# Altium schematic symbol library 2019-09-29_07-04-21.SchLib: 2 symbols
Pins are listed as number, name and electrical type; pins without a type are passive.

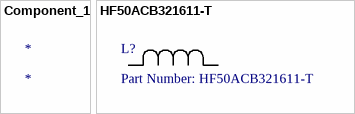
[diagram p0: symbols Component_1 to HF50ACB321611-T]

## Component_1
designator *

## HF50ACB321611-T
designator L?, comment Part Number: HF50ACB321611-T
No Description Available; Vendor: TDK; Built_By: EMA_UL_Team; Type: DEV; Manufacturer_Part_Number: HF50ACB321611-T; Copyright: Copyright (C) 2018 Accelerated Designs. All rights reserved; RefDes: RefDes; Value: Value
footprint IND_3216
pins: 1, 2